# Altium footprint library C655_Main_Board_EK.PcbLib: 44 footprints (part 3 of 3)
Each footprint in its own frame and in the unit in brackets; x right, y up, seen from the top. Pads: shape width x height; smd on the part's side, far side on the other; paste and mask are expansions set on the pad; w line width, h text height; cw(c..) or ccw(c..) is an arc to the next point about the centre after c.
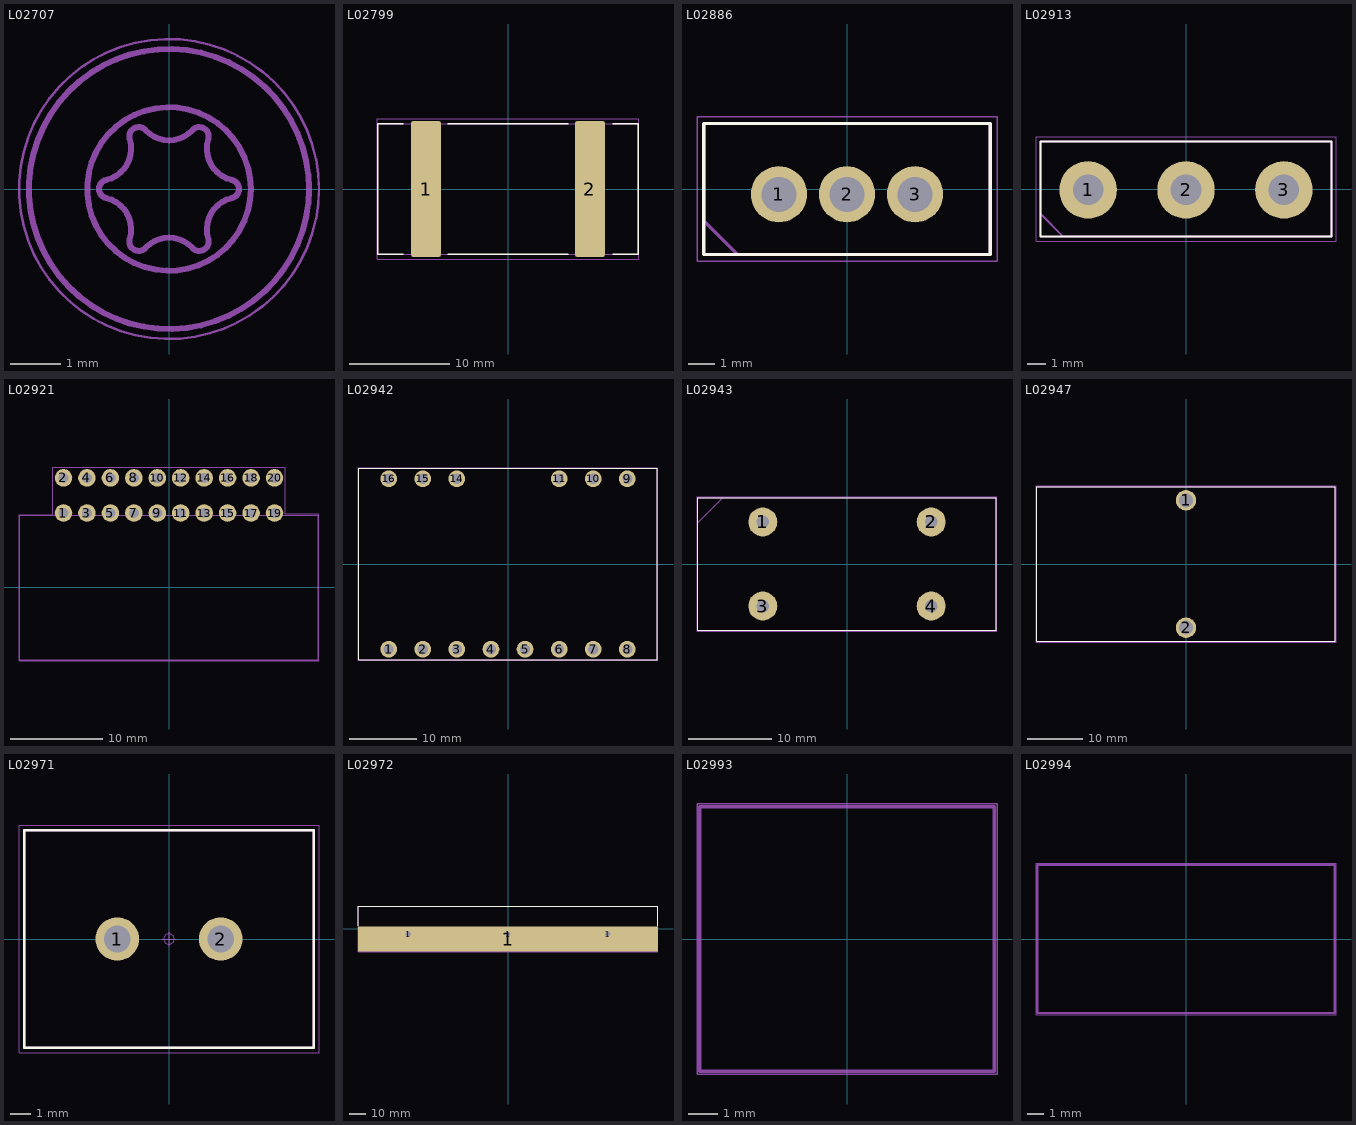
[diagram p2: the footprints below, top view; thin cyan lines are the x and y axes]

## L02707 [mm] "Screw M3x8"
Top Assembly:
  circle w0.12: c0,0 r2.8
  circle w0.12: c0,0 r1.636
  lines w0.12: -1.255,-0.183 cw(c-1.4,-0.808) -0.786,-0.995 ccw(c-0.606,-1.05) -0.469,-1.178 cw(c0,-1.617) 0.469,-1.178 ccw(c0.606,-1.05) 0.786,-0.995 cw(c1.4,-0.808) 1.255,-0.183 ccw(c1.212,0) 1.255,0.183 cw(c1.4,0.808) 0.786,0.995 ccw(c0.606,1.05) 0.469,1.178 cw(c0,1.617) -0.469,1.178 ccw(c-0.606,1.05) -0.786,0.995 cw(c-1.4,0.808) -1.255,0.183 ccw(c-1.212,0) -1.255,-0.183
  text ".Designator" at -3.3,3.1 h1.5
Top Courtyard:
  circle w0.05: c0,0 r3

## L02799 [mm] "FK 244 13 D2 PAK"
height 10
pads (2):
  rrect15% 3x13.6 smd: 1(-8.2,0) 2(8.2,0)
Top Overlay:
  lines w0.127: -10.5,-6.5 -13,-6.5 -13,6.5 -10.5,6.5 ; -6,-6.5 6,-6.5 ; -6,6.5 6,6.5 ; 10.5,-6.5 13,-6.5 13,6.5 10.5,6.5
Top Assembly:
  lines w0.12: -13,-6.5 13,-6.5 13,6.5 -13,6.5 -13,-6.5
  text ".Designator" at -4.4,-0.8 h2
Top Courtyard:
  lines w0.05: -13.1,-7 13.1,-7 13.1,7 -13.1,7 -13.1,-7
3D body "fk_244_13_d2_pak.stp": height 10, standoff 0, extent -13.001,-6.5 13.001,6.5

## L02886 [mm] "TO254P1070X490X2080-3"
height 20.8
pads (3):
  round 2.1 hole 1.3 paste-2.1: 1(-2.54,-0.2) 2(0,-0.2) 3(2.54,-0.2)
Top Overlay:
  lines w0.12: -5.35,-2.45 -5.35,2.45 5.35,2.45 5.35,-2.45 -5.35,-2.45
Top Assembly:
  lines w0.12: -5.35,-1.18 -4.08,-2.45 5.35,-2.45 5.35,2.45 -5.35,2.45 -5.35,-1.18
  text ".Designator" at -3.4,-0.6 h1.5
Top Courtyard:
  circle w0.05: c0,0 r0.25
  lines w0.05: -0.35,0 0.35,0 ; 0,-0.35 0,0.35 ; -5.6,-2.7 5.6,-2.7 5.6,2.7 -5.6,2.7 -5.6,-2.7
Mechanical 31:
  lines w0.025: -5.35,-2.45 -5.35,2.45 5.35,2.45 5.35,-2.45 -5.35,-2.45 ; -2.97,-0.5 -2.11,-0.5 -2.11,0.1 -2.97,0.1 -2.97,-0.5 ; -0.43,-0.5 0.43,-0.5 0.43,0.1 -0.43,0.1 -0.43,-0.5 ; 2.11,-0.5 2.97,-0.5 2.97,0.1 2.11,0.1 2.11,-0.5
3D body "TO254P1070X490X2080-3.STEP": height 20.8, standoff -2, extent -5.35,-2.45 5.35,2.45

## L02913 [mm] "TO545P1620X530X2550-3"
height 25.5
pads (3):
  round 3.2 hole 1.7 paste-3.2: 1(-5.45,-0.05) 2(0,-0.05) 3(5.45,-0.05)
Top Overlay:
  lines w0.12: -8.1,-2.65 -8.1,2.65 8.1,2.65 8.1,-2.65 -8.1,-2.65
Top Assembly:
  lines w0.12: -8.1,-1.38 -6.83,-2.65 8.1,-2.65 8.1,2.65 -8.1,2.65 -8.1,-1.38
  text ".Designator" at -3.3,-0.6 h1.5
Top Courtyard:
  circle w0.05: c0,0 r0.25
  lines w0.05: -0.35,0 0.35,0 ; 0,-0.35 0,0.35 ; -8.35,-2.9 8.35,-2.9 8.35,2.9 -8.35,2.9 -8.35,-2.9
Mechanical 31:
  lines w0.025: -8.1,-2.65 -8.1,2.65 8.1,2.65 8.1,-2.65 -8.1,-2.65 ; -6.115,-0.39 -4.785,-0.39 -4.785,0.29 -6.115,0.29 -6.115,-0.39 ; -0.665,-0.39 0.665,-0.39 0.665,0.29 -0.665,0.29 -0.665,-0.39 ; 4.785,-0.39 6.115,-0.39 6.115,0.29 4.785,0.29 4.785,-0.39
3D body "TO545P1620X530X2550-3.STEP": height 25.5, standoff -2, extent -8.1,-2.65 8.1,2.65

## L02921 [mm]
height 9.5
pads (20):
  round 1.9 hole 1.1: 1(-11.43,8.05) 2(-11.43,11.86) 3(-8.89,8.05) 4(-8.89,11.86) 5(-6.35,8.05) 6(-6.35,11.86) 7(-3.81,8.05) 8(-3.81,11.86) 9(-1.27,8.05) 10(-1.27,11.86) 11(1.27,8.05) 12(1.27,11.86) 13(3.81,8.05) 14(3.81,11.86) 15(6.35,8.05) 16(6.35,11.86) 17(8.89,8.05) 18(8.89,11.86) 19(11.43,8.05) 20(11.43,11.86)
Top Assembly:
  lines w0.12: -16.15,-7.85 16.15,-7.85 16.15,7.825 -16.15,7.825 -16.15,-7.85
  text ".Designator" at -4.4,-0.8 h2
Top Courtyard:
  lines w0.05: -16.25,-7.95 16.25,-7.95 16.25,7.95 12.6,7.95 12.6,13 -12.6,13 -12.6,7.85 -16.25,7.85 -16.25,-7.95
3D body "c-5650118-2-a-3d.stp": height 9.37, standoff -2.26, extent -16.002,-7.75 16.002,12.176

## L02942 [mm]
height 47.3
pads (14):
  round 2.5 hole 1.5: 1(-17.78,-12.7) 2(-12.7,-12.7) 3(-7.62,-12.7) 4(-2.54,-12.7) 5(2.54,-12.7) 6(7.62,-12.7) 7(12.7,-12.7) 8(17.78,-12.7) 9(17.78,12.7) 10(12.7,12.7) 11(7.62,12.7) 14(-7.62,12.7) 15(-12.7,12.7) 16(-17.78,12.7)
Top Overlay:
  lines w0.1: -22.25,-14.25 -22.25,14.25 22.25,14.25 22.25,-14.25 -22.25,-14.25
Top Assembly:
  lines w0.12: -22.25,-14.25 22.25,-14.25 22.25,14.25 -22.25,14.25 -22.25,-14.25
  text ".Designator" at -4.5,-0.8 h2
Top Courtyard:
  lines w0.05: -22.35,-14.35 22.35,-14.35 22.35,14.35 -22.35,14.35 -22.35,-14.35
3D body "ETD39.step": height 51.52, standoff -2.95, extent -21.9,-14.2 21.9,14.2

## L02943 [mm]
pads (4):
  round 3.5 hole 1.5: 1(-10.16,5.08) 2(10.16,5.08) 3(-10.16,-5.08) 4(10.16,-5.08)
Top Overlay:
  lines w0.1: -18,-8 -18,8 18,8 18,-8 -18,-8
Top Assembly:
  lines w0.12: -18,5 -15,8 ; -18,-8 18,-8 18,8 -18,8 -18,-8
  text ".Designator" at -4.4,-0.8 h2
Top Courtyard:
  lines w0.05: -18.1,-8.1 18.1,-8.1 18.1,8.1 -18.1,8.1 -18.1,-8.1

## L02947 [mm]
pads (2):
  round 3.7 hole 2.5: 1(0,11.5) 2(0,-11.5)
Top Overlay:
  lines w0.1: -27,-14 -27,14 27,14 27,-14 -27,-14
Top Assembly:
  lines w0.12: -27,-14 27,-14 27,14 -27,14 -27,-14
  text ".Designator" at -4.4,-0.8 h2
Top Courtyard:
  lines w0.05: -27.1,-14.1 27.1,-14.1 27.1,14.1 -27.1,14.1 -27.1,-14.1

## L02971 [mm] "RESRR500W80L1400T1050H5200"
height 52
pads (2):
  round 2.1 hole 1.3 paste-2.1: 1(-2.5,0) 2(2.5,0)
Top Overlay:
  lines w0.12: -7,-5.25 7,-5.25 7,5.25 -7,5.25 -7,-5.25
Top Assembly:
  lines w0.12: -7,-5.25 7,-5.25 7,5.25 -7,5.25 -7,-5.25
  text ".Designator" at 0,0 h1.2
Top Courtyard:
  circle w0.05: c0,0 r0.25
  lines w0.05: -0.35,0 0.35,0 ; 0,-0.35 0,0.35 ; -7.25,-5.5 -7.25,5.5 7.25,5.5 7.25,-5.5 -7.25,-5.5
Mechanical 31:
  circle w0.025: c2.5,0 r0.425
  circle w0.025: c-2.5,0 r0.425
  lines w0.025: -7,-5.25 7,-5.25 7,5.25 -7,5.25 -7,-5.25
3D body "RESRR500W80L1400T1050H5200.STEP": height 52, standoff -2, extent -7,-5.25 7,5.25

## L02972 [mm]
height 100
pads (4):
  round 6.2 hole 3.2: 1(-60,-3.1) 1(0,-3.1) 1(60,-3.1)
  rrect1% 180.2x15 smd: 1(0,-6.1)
Top Overlay:
  lines w0.1: -90,2 -90,13.5 90,13.5 90,2
Top Assembly:
  lines w0.12: -90,-13.5 -90,13.5 90,13.5 90,-13.5 -90,-13.5
  text ".Designator" at -4.4,-0.8 h2
Top Courtyard:
  lines w0.05: -90.2,-13.7 -90.2,13.6 90.2,13.6 90.2,-13.7 -90.2,-13.7
3D body "L98 P01A BS273 Aavid.STEP": height 100, standoff 0, extent -89.9,-13.2 90.1,13.65

## L02993 [mm] "Clip TO220"
Top Assembly:
  lines w0.12: -5,-4.5 5,-4.5 5,4.5 -5,4.5 -5,-4.5
  text ".Designator" at -3.3,-0.596 h1.5
Top Courtyard:
  lines w0.05: -5.1,-4.6 -5.1,4.6 5.1,4.6 5.1,-4.6 -5.1,-4.6

## L02994 [mm] "Clip TO247"
Top Assembly:
  lines w0.12: -9,-4.5 -9,4.5 9,4.5 9,-4.5 -9,-4.5
  text ".Designator" at -3.3,-0.596 h1.5
Top Courtyard:
  lines w0.05: -9.1,-4.6 9.1,-4.6 9.1,4.6 -9.1,4.6 -9.1,-4.6